# Altium footprint library PcbLib1.PcbLib: 5 footprints
Each footprint in its own frame and in the unit in brackets; x right, y up, seen from the top. Pads: shape width x height; smd on the part's side, far side on the other; paste and mask are expansions set on the pad; w line width, h text height; cw(c..) or ccw(c..) is an arc to the next point about the centre after c.
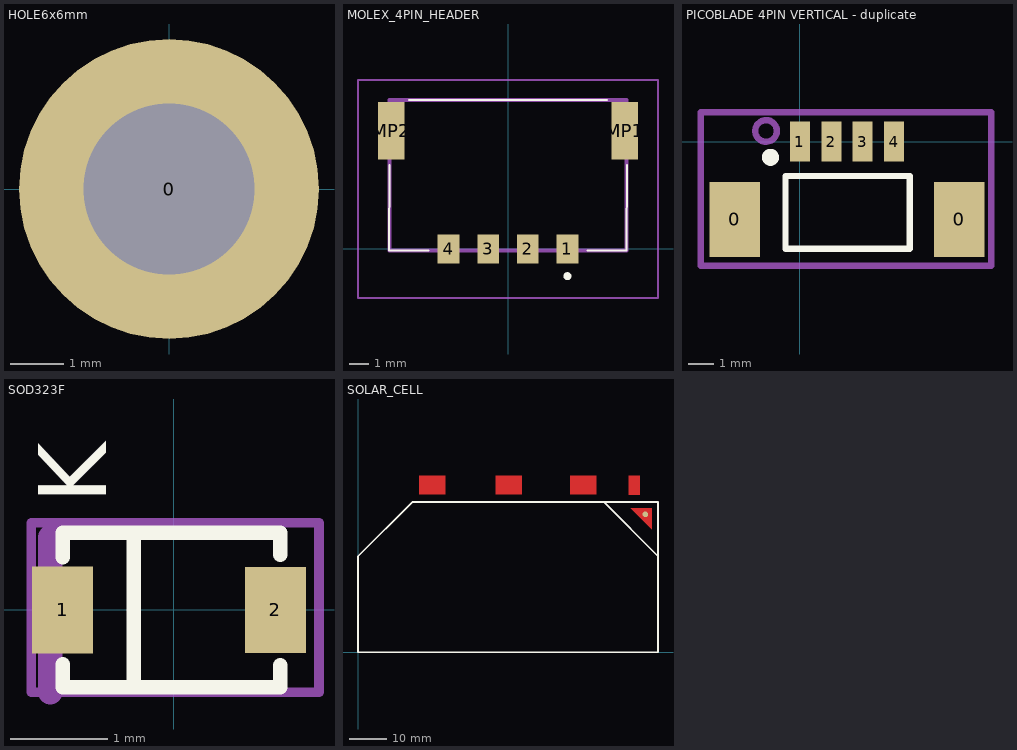
[diagram p0: the footprints below, top view; thin cyan lines are the x and y axes]

## HOLE6x6mm [mm]
pads (1):
  round 5.6 hole 3.2: 0(0,0)

## MOLEX_4PIN_HEADER [mm] "PDM number 205338-0004"
pads (6):
  rect 1.1x1.45 smd: 1(3,0) 2(1,0) 3(-1,0) 4(-3,0)
  rect 1.35x2.9 smd: MP1(5.895,5.975) MP2(-5.895,5.975)
Top Overlay:
  lines w0.1: -6,-0.075 -5.975,4.225 ; -5.975,-0.075 -4,-0.075 ; -5,7.525 5,7.525 ; 4,-0.075 5.975,-0.075 6,4.225
  lines w0.2: 3,-1.475 cw(c3,-1.375) 3,-1.275 cw(c3,-1.375) 3,-1.475
Mechanical 13:
  lines w0.2: -5.975,-0.075 5.975,-0.075 5.975,7.525 -5.975,7.525 -5.975,-0.075
Mechanical 15:
  lines w0.1: -7.57,-2.475 7.57,-2.475 7.57,8.525 -7.57,8.525 -7.57,-2.475
3D body "205338-0004.stp": height 2.6, standoff 0, extent -6.375,-0.95 6.375,7

## PICOBLADE 4PIN VERTICAL - duplicate [mm]
height 3.1
pads (6):
  rect 2x3 smd: 0(-2.6,-3.1) 0(6.35,-3.1)
  rect 0.8x1.6 smd: 1(0,0) 2(1.25,0) 3(2.5,0) 4(3.75,0)
Top Overlay:
  circle w0.5: c-1.175,-0.625 r0.09
  lines w0.254: -0.574,-4.275 -0.574,-1.372 4.375,-1.372 4.375,-4.275 -0.574,-4.275
Mechanical 15:
  circle w0.254: c-1.35,0.425 r0.432
  lines w0.254: -3.95,-4.95 -3.95,1.175 7.625,1.175 7.625,-4.95 -3.95,-4.95
  text ".Designator" at -3.341,-1.212 h0.89
3D body "User Library-molex 5339853398-0471.STEP": height 4.7, standoff 0, extent -3.15,-4.425 7,-0.225

## SOD323F [mm] "Diode SMD22WS-TP"
pads (2):
  rect 0.63x0.9 smd mask+0.05: 1(-1.15,0)
  rect 0.63x0.89 smd mask+0.05: 2(1.05,0)
Top Overlay:
  lines w0.15: -1.15,-0.8 1.1,-0.8 1.1,-0.571 ; -1.15,-0.79 -1.15,-0.562 ; -1.15,0.546 -1.15,0.775 ; -1.15,0.8 1.1,0.8 1.1,0.571 ; -0.413,-0.8 -0.413,0.8
  text "K" at -0.7,1.1 h0.7
Mechanical 15:
  lines w0.1: -1.475,-0.85 -1.475,0.9 1.5,0.9 1.5,-0.85 -1.475,-0.85
  lines w0.254: -1.275,-0.85 -1.275,0.75
  text ".Designator" at -1.125,-0.2 h0.89
3D body "User Library-SOD323F.STEP": height 0.75, standoff -0.01, extent -1.451,-0.675 1.349,0.675

## SOLAR_CELL [mm]
pads (5):
  round 0.025 smd: 1(73.8,44.65) 2(60.15,44.675) 3(40.275,44.675) 4(19.8,44.675)
  round 1.524 smd: 5(76.775,36.85)
Top Layer:
  region: 72.822,38.478 78.478,32.822 78.478,38.472 78.472,38.478
  region: 72.35,42.15 72.35,47.15 75.25,47.15 75.25,42.15
  region: 23.3,42.175 23.3,47.175 16.3,47.175 16.3,42.175
  region: 36.775,42.175 36.775,47.175 43.775,47.175 43.775,42.175
  region: 56.65,42.175 56.65,47.175 63.65,47.175 63.65,42.175
Top Overlay:
  lines w0.5: 14.5,40.1 0,25.6 0,0 80.15,0 ; 14.564,40.164 65.656,40.164 ; 80.1,40.16 65.656,40.16 80.156,25.66 ; 80.156,0.006 80.156,25.66 ; 80.156,40.16 80.156,25.66
Top Solder:
  region: 0,0 0,25.6 14.549,40.149 14.549,40.161 80.039,40.161 80.1,40.1 80.1,0 80,0 79.9,0.1